# Altium footprint library Jumper.PcbLib: 32 footprints (part 2 of 2)
Each footprint in its own frame and in the unit in brackets; x right, y up, seen from the top. Pads: shape width x height; smd on the part's side, far side on the other; paste and mask are expansions set on the pad; w line width, h text height; cw(c..) or ccw(c..) is an arc to the next point about the centre after c.
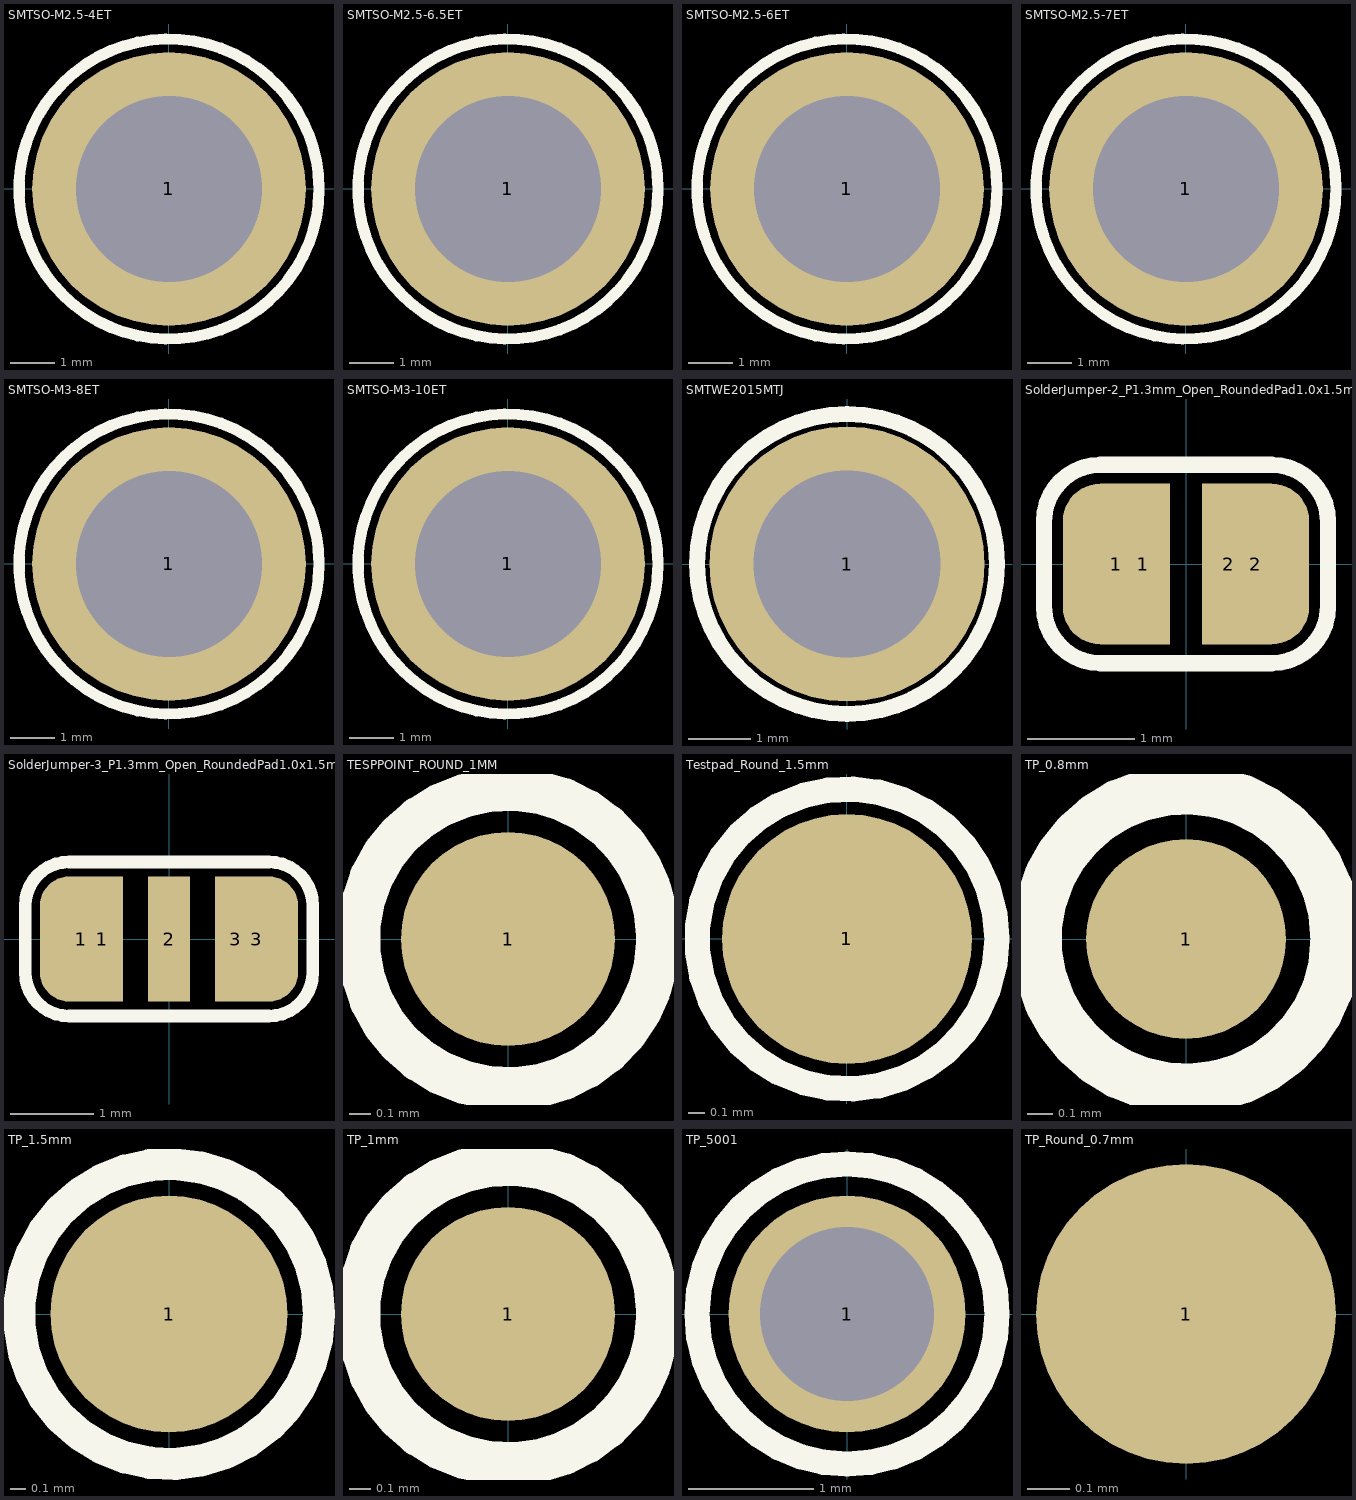
[diagram p1: the footprints below, top view; thin cyan lines are the x and y axes]

## SMTSO-M2.5-4ET [mm] "SMTSO-M2.5-6.5ET"
pads (1):
  round 6.2 hole 4.22 paste-1: 1(0,0)
Top Overlay:
  circle w0.254: c0,0 r3.4
Top Paste:
  region: 0.266,3.038 0.532,3.015 1.047,2.877 1.531,2.651 1.968,2.345 2.345,1.968 2.651,1.531 2.877,1.047 3.015,0.532 3.038,0.266 2.144,0.266 2.114,0.442 2.013,0.784 1.856,1.105 1.648,1.396 1.396,1.648 1.105,1.856 0.785,2.012 0.442,2.114 0.266,2.144
  region: -0.266,3.038 -0.532,3.015 -1.047,2.877 -1.531,2.651 -1.968,2.345 -2.345,1.968 -2.651,1.531 -2.877,1.047 -3.015,0.532 -3.038,0.266 -2.144,0.266 -2.114,0.442 -2.013,0.784 -1.856,1.105 -1.648,1.396 -1.396,1.648 -1.105,1.856 -0.785,2.012 -0.442,2.114 -0.266,2.144
  region: 0.266,-3.038 0.532,-3.015 1.047,-2.877 1.531,-2.651 1.968,-2.345 2.345,-1.968 2.651,-1.531 2.877,-1.047 3.015,-0.532 3.038,-0.266 2.144,-0.266 2.114,-0.442 2.013,-0.784 1.856,-1.105 1.648,-1.396 1.396,-1.648 1.105,-1.856 0.785,-2.012 0.442,-2.114 0.266,-2.144
  region: -3.038,-0.266 -3.015,-0.532 -2.877,-1.047 -2.651,-1.531 -2.345,-1.968 -1.968,-2.345 -1.531,-2.651 -1.047,-2.877 -0.532,-3.015 -0.266,-3.038 -0.266,-2.144 -0.442,-2.114 -0.784,-2.013 -1.105,-1.856 -1.396,-1.648 -1.648,-1.396 -1.856,-1.105 -2.012,-0.785 -2.114,-0.442 -2.144,-0.266
  lines w0.025: -2.144,-0.266 ccw(c0,0) -0.266,-2.144 -0.266,-3.038 cw(c0,0) -3.038,-0.266 -2.144,-0.266 ; -0.266,2.144 ccw(c0,0) -2.144,0.266 -3.038,0.266 cw(c0,0) -0.266,3.038 -0.266,2.144 ; 0.266,-2.144 0.266,-3.038 ccw(c0,0) 3.038,-0.266 2.144,-0.266 cw(c0,0) 0.266,-2.144 ; 0.266,2.144 0.266,3.038 cw(c0,0) 3.038,0.266 2.144,0.266 ccw(c0,0) 0.266,2.144
3D body: height 4, standoff 0, extent -2.78,-2.78 2.78,2.78

## SMTSO-M2.5-6.5ET [mm] "SMTSO-M2.5-6.5ET"
pads (1):
  round 6.2 hole 4.22 paste-1: 1(0,0)
Top Overlay:
  circle w0.254: c0,0 r3.4
Top Paste:
  region: -3.038,-0.266 -3.015,-0.532 -2.877,-1.047 -2.651,-1.531 -2.345,-1.968 -1.968,-2.345 -1.531,-2.651 -1.047,-2.877 -0.532,-3.015 -0.266,-3.038 -0.266,-2.144 -0.442,-2.114 -0.784,-2.013 -1.105,-1.856 -1.396,-1.648 -1.648,-1.396 -1.856,-1.105 -2.012,-0.785 -2.114,-0.442 -2.144,-0.266
  region: 0.266,-3.038 0.532,-3.015 1.047,-2.877 1.531,-2.651 1.968,-2.345 2.345,-1.968 2.651,-1.531 2.877,-1.047 3.015,-0.532 3.038,-0.266 2.144,-0.266 2.114,-0.442 2.013,-0.784 1.856,-1.105 1.648,-1.396 1.396,-1.648 1.105,-1.856 0.785,-2.012 0.442,-2.114 0.266,-2.144
  region: -0.266,3.038 -0.532,3.015 -1.047,2.877 -1.531,2.651 -1.968,2.345 -2.345,1.968 -2.651,1.531 -2.877,1.047 -3.015,0.532 -3.038,0.266 -2.144,0.266 -2.114,0.442 -2.013,0.784 -1.856,1.105 -1.648,1.396 -1.396,1.648 -1.105,1.856 -0.785,2.012 -0.442,2.114 -0.266,2.144
  region: 0.266,3.038 0.532,3.015 1.047,2.877 1.531,2.651 1.968,2.345 2.345,1.968 2.651,1.531 2.877,1.047 3.015,0.532 3.038,0.266 2.144,0.266 2.114,0.442 2.013,0.784 1.856,1.105 1.648,1.396 1.396,1.648 1.105,1.856 0.785,2.012 0.442,2.114 0.266,2.144
  lines w0.025: -2.144,-0.266 ccw(c0,0) -0.266,-2.144 -0.266,-3.038 cw(c0,0) -3.038,-0.266 -2.144,-0.266 ; -0.266,2.144 ccw(c0,0) -2.144,0.266 -3.038,0.266 cw(c0,0) -0.266,3.038 -0.266,2.144 ; 0.266,-2.144 0.266,-3.038 ccw(c0,0) 3.038,-0.266 2.144,-0.266 cw(c0,0) 0.266,-2.144 ; 0.266,2.144 0.266,3.038 cw(c0,0) 3.038,0.266 2.144,0.266 ccw(c0,0) 0.266,2.144
3D body: height 6.5, standoff 0, extent -2.78,-2.777 2.78,2.777

## SMTSO-M2.5-6ET [mm] "SMTSO-M2.5-6ET"
pads (1):
  round 6.2 hole 4.22 paste-1: 1(0,0)
Top Overlay:
  circle w0.254: c0,0 r3.4
Top Paste:
  region: 0.266,3.038 0.532,3.015 1.047,2.877 1.531,2.651 1.968,2.345 2.345,1.968 2.651,1.531 2.877,1.047 3.015,0.532 3.038,0.266 2.144,0.266 2.114,0.442 2.013,0.784 1.856,1.105 1.648,1.396 1.396,1.648 1.105,1.856 0.785,2.012 0.442,2.114 0.266,2.144
  region: -0.266,3.038 -0.532,3.015 -1.047,2.877 -1.531,2.651 -1.968,2.345 -2.345,1.968 -2.651,1.531 -2.877,1.047 -3.015,0.532 -3.038,0.266 -2.144,0.266 -2.114,0.442 -2.013,0.784 -1.856,1.105 -1.648,1.396 -1.396,1.648 -1.105,1.856 -0.785,2.012 -0.442,2.114 -0.266,2.144
  region: 0.266,-3.038 0.532,-3.015 1.047,-2.877 1.531,-2.651 1.968,-2.345 2.345,-1.968 2.651,-1.531 2.877,-1.047 3.015,-0.532 3.038,-0.266 2.144,-0.266 2.114,-0.442 2.013,-0.784 1.856,-1.105 1.648,-1.396 1.396,-1.648 1.105,-1.856 0.785,-2.012 0.442,-2.114 0.266,-2.144
  region: -3.038,-0.266 -3.015,-0.532 -2.877,-1.047 -2.651,-1.531 -2.345,-1.968 -1.968,-2.345 -1.531,-2.651 -1.047,-2.877 -0.532,-3.015 -0.266,-3.038 -0.266,-2.144 -0.442,-2.114 -0.784,-2.013 -1.105,-1.856 -1.396,-1.648 -1.648,-1.396 -1.856,-1.105 -2.012,-0.785 -2.114,-0.442 -2.144,-0.266
  lines w0.025: -2.144,-0.266 ccw(c0,0) -0.266,-2.144 -0.266,-3.038 cw(c0,0) -3.038,-0.266 -2.144,-0.266 ; -0.266,2.144 ccw(c0,0) -2.144,0.266 -3.038,0.266 cw(c0,0) -0.266,3.038 -0.266,2.144 ; 0.266,-2.144 0.266,-3.038 ccw(c0,0) 3.038,-0.266 2.144,-0.266 cw(c0,0) 0.266,-2.144 ; 0.266,2.144 0.266,3.038 cw(c0,0) 3.038,0.266 2.144,0.266 ccw(c0,0) 0.266,2.144
3D body: height 6, standoff 0, extent -2.78,-2.777 2.78,2.777

## SMTSO-M2.5-7ET [mm] "SMTSO-M2.5-7ET"
pads (1):
  round 6.2 hole 4.22 paste-1: 1(0,0)
Top Overlay:
  circle w0.254: c0,0 r3.4
Top Paste:
  region: -3.038,-0.266 -3.015,-0.532 -2.877,-1.047 -2.651,-1.531 -2.345,-1.968 -1.968,-2.345 -1.531,-2.651 -1.047,-2.877 -0.532,-3.015 -0.266,-3.038 -0.266,-2.144 -0.442,-2.114 -0.784,-2.013 -1.105,-1.856 -1.396,-1.648 -1.648,-1.396 -1.856,-1.105 -2.012,-0.785 -2.114,-0.442 -2.144,-0.266
  region: 0.266,-3.038 0.532,-3.015 1.047,-2.877 1.531,-2.651 1.968,-2.345 2.345,-1.968 2.651,-1.531 2.877,-1.047 3.015,-0.532 3.038,-0.266 2.144,-0.266 2.114,-0.442 2.013,-0.784 1.856,-1.105 1.648,-1.396 1.396,-1.648 1.105,-1.856 0.785,-2.012 0.442,-2.114 0.266,-2.144
  region: -0.266,3.038 -0.532,3.015 -1.047,2.877 -1.531,2.651 -1.968,2.345 -2.345,1.968 -2.651,1.531 -2.877,1.047 -3.015,0.532 -3.038,0.266 -2.144,0.266 -2.114,0.442 -2.013,0.784 -1.856,1.105 -1.648,1.396 -1.396,1.648 -1.105,1.856 -0.785,2.012 -0.442,2.114 -0.266,2.144
  region: 0.266,3.038 0.532,3.015 1.047,2.877 1.531,2.651 1.968,2.345 2.345,1.968 2.651,1.531 2.877,1.047 3.015,0.532 3.038,0.266 2.144,0.266 2.114,0.442 2.013,0.784 1.856,1.105 1.648,1.396 1.396,1.648 1.105,1.856 0.785,2.012 0.442,2.114 0.266,2.144
  lines w0.025: -2.144,-0.266 ccw(c0,0) -0.266,-2.144 -0.266,-3.038 cw(c0,0) -3.038,-0.266 -2.144,-0.266 ; -0.266,2.144 ccw(c0,0) -2.144,0.266 -3.038,0.266 cw(c0,0) -0.266,3.038 -0.266,2.144 ; 0.266,-2.144 0.266,-3.038 ccw(c0,0) 3.038,-0.266 2.144,-0.266 cw(c0,0) 0.266,-2.144 ; 0.266,2.144 0.266,3.038 cw(c0,0) 3.038,0.266 2.144,0.266 ccw(c0,0) 0.266,2.144
3D body: height 7, standoff 0, extent -2.78,-2.777 2.78,2.777

## SMTSO-M3-8ET [mm] "SMTSO-M2.5-7ET"
pads (1):
  round 6.2 hole 4.22 paste-1: 1(0,0)
Top Overlay:
  circle w0.254: c0,0 r3.4
Top Paste:
  region: 0.266,3.038 0.532,3.015 1.047,2.877 1.531,2.651 1.968,2.345 2.345,1.968 2.651,1.531 2.877,1.047 3.015,0.532 3.038,0.266 2.144,0.266 2.114,0.442 2.013,0.784 1.856,1.105 1.648,1.396 1.396,1.648 1.105,1.856 0.785,2.012 0.442,2.114 0.266,2.144
  region: -0.266,3.038 -0.532,3.015 -1.047,2.877 -1.531,2.651 -1.968,2.345 -2.345,1.968 -2.651,1.531 -2.877,1.047 -3.015,0.532 -3.038,0.266 -2.144,0.266 -2.114,0.442 -2.013,0.784 -1.856,1.105 -1.648,1.396 -1.396,1.648 -1.105,1.856 -0.785,2.012 -0.442,2.114 -0.266,2.144
  region: 0.266,-3.038 0.532,-3.015 1.047,-2.877 1.531,-2.651 1.968,-2.345 2.345,-1.968 2.651,-1.531 2.877,-1.047 3.015,-0.532 3.038,-0.266 2.144,-0.266 2.114,-0.442 2.013,-0.784 1.856,-1.105 1.648,-1.396 1.396,-1.648 1.105,-1.856 0.785,-2.012 0.442,-2.114 0.266,-2.144
  region: -3.038,-0.266 -3.015,-0.532 -2.877,-1.047 -2.651,-1.531 -2.345,-1.968 -1.968,-2.345 -1.531,-2.651 -1.047,-2.877 -0.532,-3.015 -0.266,-3.038 -0.266,-2.144 -0.442,-2.114 -0.784,-2.013 -1.105,-1.856 -1.396,-1.648 -1.648,-1.396 -1.856,-1.105 -2.012,-0.785 -2.114,-0.442 -2.144,-0.266
  lines w0.025: -2.144,-0.266 ccw(c0,0) -0.266,-2.144 -0.266,-3.038 cw(c0,0) -3.038,-0.266 -2.144,-0.266 ; -0.266,2.144 ccw(c0,0) -2.144,0.266 -3.038,0.266 cw(c0,0) -0.266,3.038 -0.266,2.144 ; 0.266,-2.144 0.266,-3.038 ccw(c0,0) 3.038,-0.266 2.144,-0.266 cw(c0,0) 0.266,-2.144 ; 0.266,2.144 0.266,3.038 cw(c0,0) 3.038,0.266 2.144,0.266 ccw(c0,0) 0.266,2.144
3D body: height 8, standoff 0, extent -2.78,-2.777 2.78,2.777

## SMTSO-M3-10ET [mm] "SMTSO-M2.5-7ET"
pads (1):
  round 6.2 hole 4.22 paste-1: 1(0,0)
Top Overlay:
  circle w0.254: c0,0 r3.4
Top Paste:
  region: -3.038,-0.266 -3.015,-0.532 -2.877,-1.047 -2.651,-1.531 -2.345,-1.968 -1.968,-2.345 -1.531,-2.651 -1.047,-2.877 -0.532,-3.015 -0.266,-3.038 -0.266,-2.144 -0.442,-2.114 -0.784,-2.013 -1.105,-1.856 -1.396,-1.648 -1.648,-1.396 -1.856,-1.105 -2.012,-0.785 -2.114,-0.442 -2.144,-0.266
  region: 0.266,-3.038 0.532,-3.015 1.047,-2.877 1.531,-2.651 1.968,-2.345 2.345,-1.968 2.651,-1.531 2.877,-1.047 3.015,-0.532 3.038,-0.266 2.144,-0.266 2.114,-0.442 2.013,-0.784 1.856,-1.105 1.648,-1.396 1.396,-1.648 1.105,-1.856 0.785,-2.012 0.442,-2.114 0.266,-2.144
  region: -0.266,3.038 -0.532,3.015 -1.047,2.877 -1.531,2.651 -1.968,2.345 -2.345,1.968 -2.651,1.531 -2.877,1.047 -3.015,0.532 -3.038,0.266 -2.144,0.266 -2.114,0.442 -2.013,0.784 -1.856,1.105 -1.648,1.396 -1.396,1.648 -1.105,1.856 -0.785,2.012 -0.442,2.114 -0.266,2.144
  region: 0.266,3.038 0.532,3.015 1.047,2.877 1.531,2.651 1.968,2.345 2.345,1.968 2.651,1.531 2.877,1.047 3.015,0.532 3.038,0.266 2.144,0.266 2.114,0.442 2.013,0.784 1.856,1.105 1.648,1.396 1.396,1.648 1.105,1.856 0.785,2.012 0.442,2.114 0.266,2.144
  lines w0.025: -2.144,-0.266 ccw(c0,0) -0.266,-2.144 -0.266,-3.038 cw(c0,0) -3.038,-0.266 -2.144,-0.266 ; -0.266,2.144 ccw(c0,0) -2.144,0.266 -3.038,0.266 cw(c0,0) -0.266,3.038 -0.266,2.144 ; 0.266,-2.144 0.266,-3.038 ccw(c0,0) 3.038,-0.266 2.144,-0.266 cw(c0,0) 0.266,-2.144 ; 0.266,2.144 0.266,3.038 cw(c0,0) 3.038,0.266 2.144,0.266 ccw(c0,0) 0.266,2.144
3D body: height 10, standoff 0, extent -2.78,-2.777 2.78,2.777

## SMTWE2015MTJ [mm] "SMTSO-M2.5-2.5ET"
pads (1):
  round 4.4 hole 3 mask+0.102: 1(0,0)
Top Overlay:
  circle w0.254: c0,0 r2.4
Top Paste:
  region: 2.188,-0.225 2.169,-0.413 2.068,-0.775 1.906,-1.115 1.689,-1.423 1.423,-1.689 1.115,-1.906 0.775,-2.068 0.413,-2.169 0.225,-2.188 0.225,-1.481 0.226,-1.483 0.342,-1.46 0.569,-1.388 0.781,-1.281 0.973,-1.141 1.141,-0.973 1.281,-0.781 1.388,-0.569 1.46,-0.342 1.483,-0.226 1.481,-0.225
  region: -2.188,-0.225 -2.169,-0.413 -2.068,-0.775 -1.906,-1.115 -1.689,-1.423 -1.423,-1.689 -1.115,-1.906 -0.775,-2.068 -0.413,-2.169 -0.225,-2.188 -0.225,-1.481 -0.226,-1.483 -0.342,-1.46 -0.569,-1.388 -0.781,-1.281 -0.973,-1.141 -1.141,-0.973 -1.281,-0.781 -1.388,-0.569 -1.46,-0.342 -1.483,-0.226 -1.481,-0.225
  region: 2.188,0.225 2.169,0.413 2.068,0.775 1.906,1.115 1.689,1.423 1.423,1.689 1.115,1.906 0.775,2.068 0.413,2.169 0.225,2.188 0.225,1.481 0.226,1.483 0.342,1.46 0.569,1.388 0.781,1.281 0.973,1.141 1.141,0.973 1.281,0.781 1.388,0.569 1.46,0.342 1.483,0.226 1.481,0.225
  region: -2.188,0.225 -2.169,0.413 -2.068,0.775 -1.906,1.115 -1.689,1.423 -1.423,1.689 -1.115,1.906 -0.775,2.068 -0.413,2.169 -0.225,2.188 -0.225,1.481 -0.226,1.483 -0.342,1.46 -0.569,1.388 -0.781,1.281 -0.973,1.141 -1.141,0.973 -1.281,0.781 -1.388,0.569 -1.46,0.342 -1.483,0.226 -1.481,0.225
3D body "贴片螺母SMTWE2015MTJ.stp": height 1.5, standoff -1.4, extent -2.175,-2.163 2.175,2.163

## SolderJumper-2_P1.3mm_Open_RoundedPad1.0x1.5mm [mm]
pads (4):
  rrect70% 1x1.5 smd: 1(-0.65,0) 2(0.65,0)
  rect 0.5x1.5 smd: 1(-0.4,0) 2(0.4,0)
Top Overlay:
  lines w0.152: -1.325,-0.025 -1.325,0.4 cw(c-0.8,0.4) -0.8,0.925 0,0.925 0.8,0.925 cw(c0.8,0.4) 1.325,0.4 1.325,-0.025 ; -1.325,0.025 -1.325,-0.4 ccw(c-0.8,-0.4) -0.8,-0.925 0,-0.925 0.8,-0.925 ccw(c0.8,-0.4) 1.325,-0.4 1.325,0.025

## SolderJumper-3_P1.3mm_Open_RoundedPad1.0x1.5mm [mm]
pads (5):
  rrect70% 1x1.5 smd: 1(-1.05,0) 3(1.05,0)
  rect 0.5x1.5 smd: 1(-0.8,0) 2(0,0) 3(0.8,0)
Top Overlay:
  lines w0.152: -1.725,-0.025 -1.725,0.4 cw(c-1.2,0.4) -1.2,0.925 -0.4,0.925 1.2,0.925 cw(c1.2,0.4) 1.725,0.4 1.725,-0.025 ; -1.725,0.025 -1.725,-0.4 ccw(c-1.2,-0.4) -1.2,-0.925 -0.4,-0.925 1.2,-0.925 ccw(c1.2,-0.4) 1.725,-0.4 1.725,0.025

## TESPPOINT_ROUND_1MM [mm]
pads (1):
  round 1 smd: 1(0,0)
Top Overlay:
  circle w0.203: c0,0 r0.7

## Testpad_Round_1.5mm [mm]
pads (1):
  round 1.5 smd paste-0.75: 1(0,0)
Top Overlay:
  circle w0.152: c0,0 r0.9

## TP_0.8mm [mm]
pads (1):
  round 0.8 smd: 1(0,0)
Top Overlay:
  circle w0.203: c0,0 r0.6

## TP_1.5mm [mm]
pads (1):
  round 1.5 smd: 1(0,0)
Top Overlay:
  circle w0.203: c0,0 r0.95

## TP_1mm [mm]
pads (1):
  round 1 smd: 1(0,0)
Top Overlay:
  circle w0.203: c0,0 r0.7

## TP_5001 [mm]
pads (1):
  round 1.9 hole 1.39: 1(0,0)
Top Overlay:
  circle w0.203: c0,0 r1.2
3D body "U1.stp": height 4.62, standoff -3, extent -1.275,-1.27 1.265,1.271

## TP_Round_0.7mm [mm]
pads (1):
  round 0.7 smd: 1(0,0)